# Altium footprint library IND-SMD_FC-SE2014-220M.PcbLib: 1 footprints
Each footprint in its own frame and in the unit in brackets; x right, y up, seen from the top. Pads: shape width x height; smd on the part's side, far side on the other; paste and mask are expansions set on the pad; w line width, h text height; cw(c..) or ccw(c..) is an arc to the next point about the centre after c.
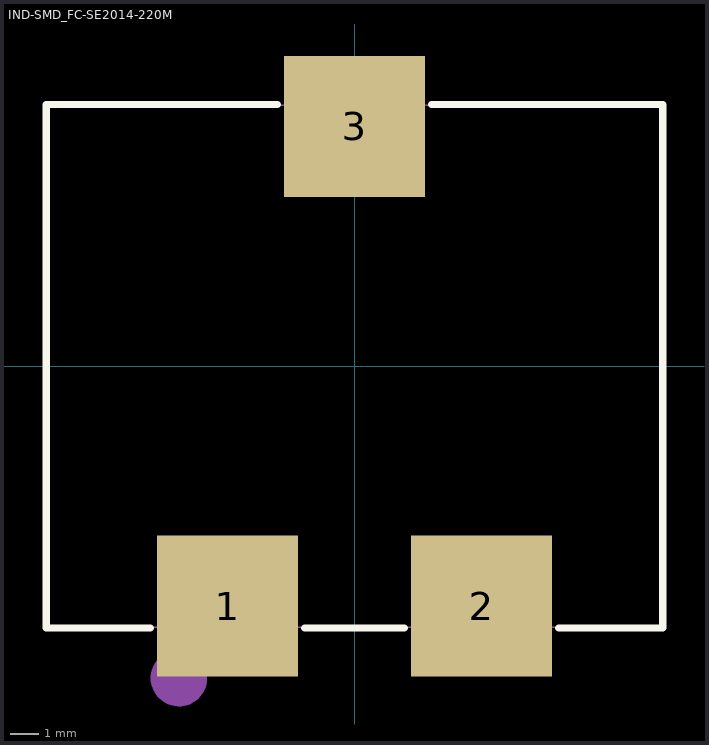
[diagram p0: the footprint, top view; thin cyan lines are the x and y axes]

## IND-SMD_FC-SE2014-220M [mm]
pads (3):
  rect 5x5 smd paste+0 mask+0.05: 1(-4.5,-8.5) 2(4.5,-8.5) 3(0,8.5)
Top Overlay:
  lines w0.254: -7.231,-9.271 -10.922,-9.271 -10.922,9.271 -2.731,9.271 ; -1.769,-9.271 1.769,-9.271 ; 2.731,9.271 10.922,9.271 10.922,-9.271 7.231,-9.271
Mechanical 6:
  circle w1: c-6.223,-11.049 r0.5
Mechanical 15:
  region: 3,-6.25 6,-6.25 6,-9.25 3,-9.25
  region: -6,-6.25 -3,-6.25 -3,-9.25 -6,-9.25
  region: -1.5,9.25 1.5,9.25 1.5,6.25 -1.5,6.25
  region: -10.84,-9.25 -10.84,-9.225 -10.875,-9.19 -10.925,-9.19 -10.96,-9.225 -10.96,-9.25 -10.96,-9.275 -10.925,-9.31 -10.875,-9.31 -10.84,-9.275 -10.84,-9.25
  lines w0.051: -10.9,-9.25 10.9,-9.25 10.9,9.25 -10.9,9.25 -10.9,-9.25